# Altium schematic symbol library IC_IPS6041GPbF.SchLib: 1 symbol
Pins are listed as number, name and electrical type; pins without a type are passive.

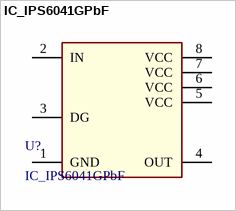
[diagram p0: symbol IC_IPS6041GPbF]

## IC_IPS6041GPbF
designator U?
FULLY PROTECTED HIGH SIDE POWER MOSFET SWITCH
pins: 1 GND (power), 2 IN, 3 DG (oc), 4 OUT (oe), 5 VCC (power), 6 VCC (power), 7 VCC (power), 8 VCC (power)